# EAGLE library part ADV7181C (library sjg-adv)
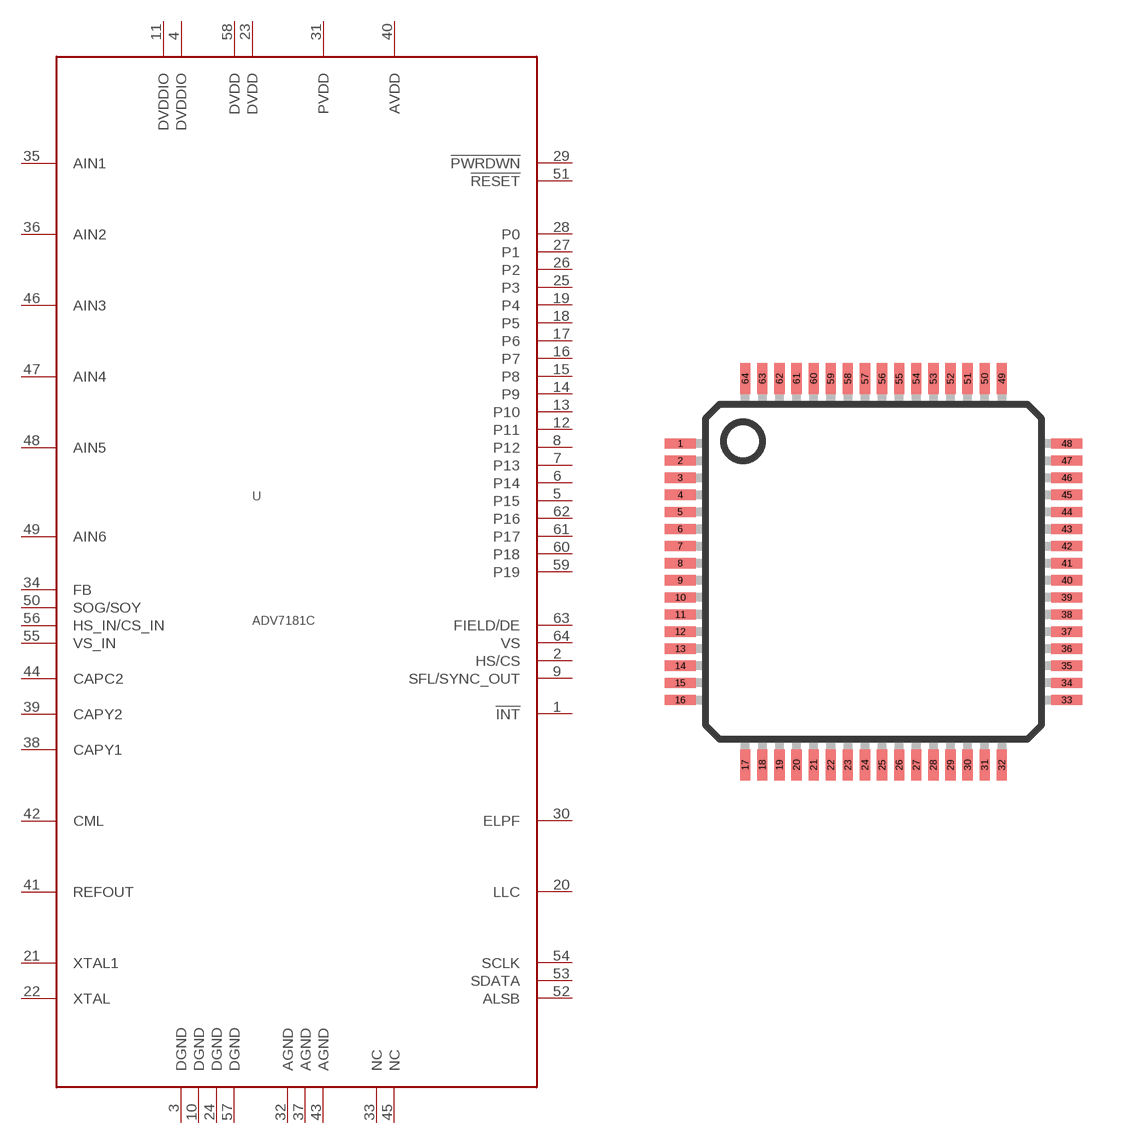
[diagram p2: symbol with the pads of LQFP-ST-64-2; footprint LQFP-ST-64-2]

Designator prefix -

## ADV7181C  [LQFP-ST-64-2]
1  !INT!
2  HS/CS
3  DGND
4  DVDDIO
5  P15
6  P14
7  P13
8  P12
9  SFL/SYNC_OUT
10  DGND
11  DVDDIO
12  P11
13  P10
14  P9
15  P8
16  P7
17  P6
18  P5
19  P4
20  LLC
21  XTAL1
22  XTAL
23  DVDD
24  DGND
25  P3
26  P2
27  P1
28  P0
29  !PWRDWN!
30  ELPF
31  PVDD
32  AGND
33  NC
34  FB
35  AIN1
36  AIN2
37  AGND
38  CAPY1
39  CAPY2
40  AVDD
41  REFOUT
42  CML
43  AGND
44  CAPC2
45  NC
46  AIN3
47  AIN4
48  AIN5
49  AIN6
50  SOG/SOY
51  !RESET!
52  ALSB
53  SDATA
54  SCLK
55  VS_IN
56  HS_IN/CS_IN
57  DGND
58  DVDD
59  P19
60  P18
61  P17
62  P16
63  FIELD/DE
64  VS

## Footprint LQFP-ST-64-2 (pad centres in mm)
64-Lead Low Profile Quad Flat Package [LQFP] (ST-64-2) COMPLIANT TO JEDEC STANDARDS MS-026-BCD Source: http://www.analog.com/UploadedFiles/Data_Sheets/288945048AD7C7019_20_1_2_4_5_6_7_0.pdf
smd 0.9 x 0.3: 1 -5.65,3.75; 2 -5.65,3.25; 3 -5.65,2.75; 4 -5.65,2.25; 5 -5.65,1.75; 6 -5.65,1.25; 7 -5.65,0.75; 8 -5.65,0.25; 9 -5.65,-0.25; 10 -5.65,-0.75; 11 -5.65,-1.25; 12 -5.65,-1.75; 13 -5.65,-2.25; 14 -5.65,-2.75; 15 -5.65,-3.25; 16 -5.65,-3.75; 33 5.65,-3.75; 34 5.65,-3.25; 35 5.65,-2.75; 36 5.65,-2.25; 37 5.65,-1.75; 38 5.65,-1.25; 39 5.65,-0.75; 40 5.65,-0.25; 41 5.65,0.25; 42 5.65,0.75; 43 5.65,1.25; 44 5.65,1.75; 45 5.65,2.25; 46 5.65,2.75; 47 5.65,3.25; 48 5.65,3.75
smd 0.3 x 0.9: 17 -3.75,-5.65; 18 -3.25,-5.65; 19 -2.75,-5.65; 20 -2.25,-5.65; 21 -1.75,-5.65; 22 -1.25,-5.65; 23 -0.75,-5.65; 24 -0.25,-5.65; 25 0.25,-5.65; 26 0.75,-5.65; 27 1.25,-5.65; 28 1.75,-5.65; 29 2.25,-5.65; 30 2.75,-5.65; 31 3.25,-5.65; 32 3.75,-5.65; 49 3.75,5.65; 50 3.25,5.65; 51 2.75,5.65; 52 2.25,5.65; 53 1.75,5.65; 54 1.25,5.65; 55 0.75,5.65; 56 0.25,5.65; 57 -0.25,5.65; 58 -0.75,5.65; 59 -1.25,5.65; 60 -1.75,5.65; 61 -2.25,5.65; 62 -2.75,5.65; 63 -3.25,5.65; 64 -3.75,5.65